# EAGLE library part 39-30-6068 (library 39-30-6068)
Mini-Fit Jr. Vertical Header, 4.20mm Pitch, Dual Row, 6 Circuits, with Snap-in Plastic Peg PCB Lock, Tin, Natural Source: Datasheet <https://www.molex.com/pdm_docs/sd/039306048_sd.pdf>
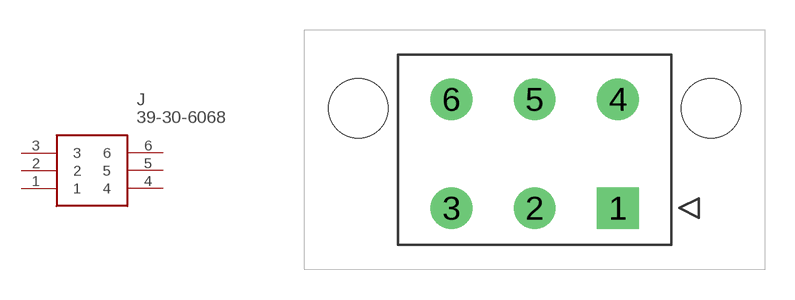
[diagram p0: symbol with the pads of 39-30-606Y; footprint 39-30-606Y]

Designator prefix J

## 39-30-6068 (Description: Mini-Fit Jr. Vertical Header, 4.20mm Pitch, Dual Row, 6 Circuits, with Snap-in Plastic Peg PCB Lock, Tin, Natural; Height: 12.8mm; Manufacturer_Name: Molex; Manufacturer_Part_Number: 39-30-6068; Mouser_Part_Number: 538-39-30-6068; Mouser_Price-Stock: https://www.mouser.co.uk/ProductDetail/Molex/39-30-6068?qs=HghdDNGXMEQzYr6dBmgN%252BQ%3D%3D)  [39-30-606Y]
1  1
2  2
3  3
4  4
5  5
6  6

## Footprint 39-30-606Y (pad centres in mm)
39-30-606Y
drill 1.4 pad 1.75 square: 1 0,0
drill 1.4 pad 1.75: 2 -4.2,0; 3 -8.4,0; 4 0,5.5; 5 -4.2,5.5; 6 -8.4,5.5
hole 3 at 4.7,5.04
hole 3 at -13.1,5.04